# EAGLE library part RV-3032 (library pimoroni-ics)
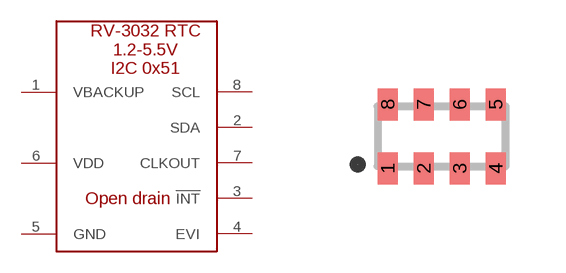
[diagram p156: symbol with the pads of RV-3028; footprint RV-3028]

Designator prefix Y

## RV-3032RV-3032  [RV-3028]
1  VBACKUP
2  SDA
3  !INT
4  EVI
5  GND
6  VDD
7  CLKOUT
8  SCL

## Footprint RV-3028 (pad centres in mm)
smd 0.5 x 0.8: 1 -1.35,-0.8; 2 -0.45,-0.8; 3 0.45,-0.8; 4 1.35,-0.8; 5 1.35,0.8; 6 0.45,0.8; 7 -0.45,0.8; 8 -1.35,0.8